# Altium footprint library transistor_footprint.PcbLib: 1 footprints
Each footprint in its own frame and in the unit in brackets; x right, y up, seen from the top. Pads: shape width x height; smd on the part's side, far side on the other; paste and mask are expansions set on the pad; w line width, h text height; cw(c..) or ccw(c..) is an arc to the next point about the centre after c.
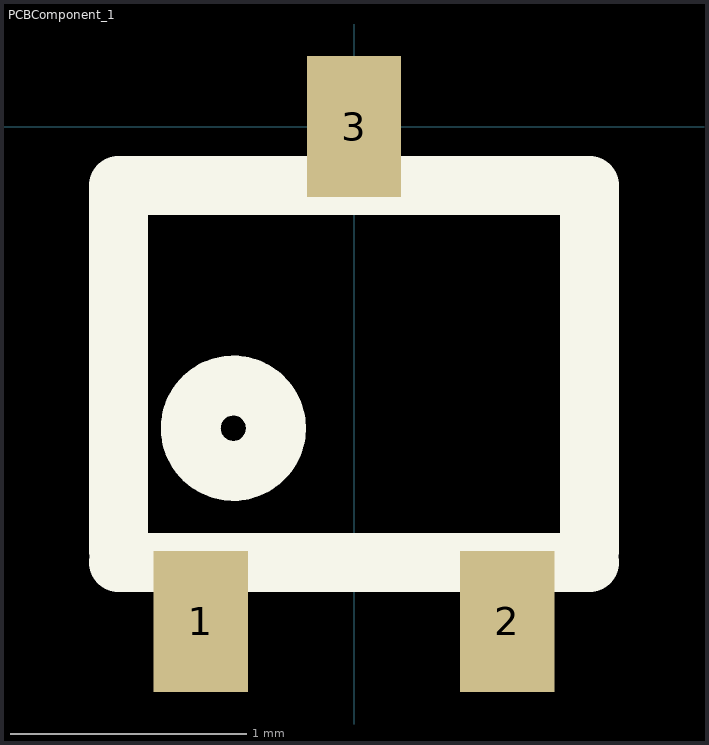
[diagram p0: the footprint, top view; thin cyan lines are the x and y axes]

## PCBComponent_1 [mm]
pads (3):
  rect 0.4x0.6 smd: 1(-0.65,-2.1) 2(0.65,-2.1) 3(0,0)
Top Overlay:
  circle w0.254: c-0.512,-1.28 r0.181
  lines w0.25: -1,-1.85 1,-1.85 ; -1,-1.8 -1,-0.25 1,-0.25 1,-1.8